# Altium schematic symbol library EEU-FR1H331L.SchLib: 1 symbol
Pins are listed as number, name and electrical type; pins without a type are passive.

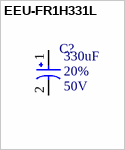
[diagram p0: symbol EEU-FR1H331L]

## EEU-FR1H331L
designator C?  Rated Voltage: 50V  Tolerance: 20%  Capacitence: 330uF  (hidden comment: EEU-FR1H331L)
CAP ALUM 330UF 20% 50V RADIAL; MFR: Panasonic Electronic Components; PN: EEU-FR1H331L; ComponentLink1Description: Datasheet; ComponentLink1URL: www.google.com; Temperature Coefficient: N/A; Package: Radial 10x25mm; Footprint: Radial 10x25mm; Supplier 1: Digi-Key; Supplier Part Number 1: P14460-ND
footprint Radial 10x25mm (Polarized aluminum electrolytic capacitor, 10x25mm LS5mm)
pins: 1, 2